# EAGLE library part ADXL330 (library SparkFun-Sensors_Smight)
Analog Devices ADXL330 3-Axis Analog Accelerometer The ADXL330 is a small, thin, low power, complete 3-axis accelerometer with signal conditioned voltage outputs, all on a single monolithic IC. The product measures acceleration with a minimum full-scale range of ±3g. It can measure the static acceleration of gravity in tilt-sensing applications, as well as dynamic acceleration resulting from motion, shock, or vibration. Datasheet <https://www.sparkfun.com/datasheets/Components/ADXL330_0.pdf> SparkFun Products Triple Axis Accelerometer Breakout - ADXL330 <https://www.sparkfun.com/products/retired/692> (SEN-00692)
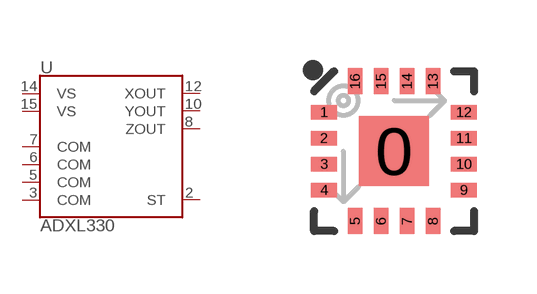
[diagram p0: symbol with the pads of LFCSP-16-4X4; footprint LFCSP-16-4X4]

Designator prefix U

## ADXL330 (PROD_ID: IC-08189)  [LFCSP-16-4X4]
2  ST
3  COM
5  COM
6  COM
7  COM
8  ZOUT
10  YOUT
12  XOUT
14  VS
15  VS

## Footprint LFCSP-16-4X4 (pad centres in mm)
16-Pin LFCSP w/ Center Pad (4 x 4 mm) Datasheet <https://www.sparkfun.com/datasheets/Components/SMD/adxl335.pdf> Specifications: Pin Count: 16 (+ center pad) Area: 4.0 x 4.0 x 1.45 mm Pitch: 0.65 mm Devices Using: ADXL330 ADXL335
smd 1.75 x 1.75: 0 0,0
smd 0.65 x 0.37: 1 -1.75,0.975; 2 -1.75,0.325; 3 -1.75,-0.325; 4 -1.75,-0.975; 9 1.75,-0.975; 10 1.75,-0.325; 11 1.75,0.325; 12 1.75,0.975
smd 0.37 x 0.65: 5 -0.975,-1.75; 6 -0.325,-1.75; 7 0.325,-1.75; 8 0.975,-1.75; 13 0.975,1.75; 14 0.325,1.75; 15 -0.325,1.75; 16 -0.975,1.75